# Altium schematic symbol library Y_4pin-gnd24.SchLib: 1 symbol
Pins are listed as number, name and electrical type; pins without a type are passive.

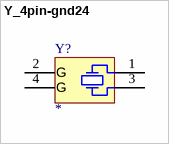
[diagram p0: symbol Y_4pin-gnd24]

## Y_4pin-gnd24
designator Y?
pins: 1, 2 GND (power), 3, 4 GND (power)
1 alternate drawing of the same symbol
text: G